# EAGLE library part MCP7940N (library WCSMain)
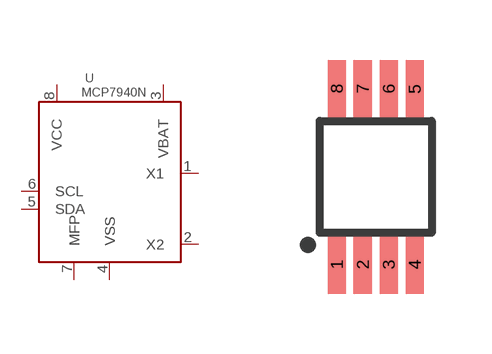
[diagram p1: symbol with the pads of MSOP8; footprint MSOP8]

Designator prefix -

## MCP7940N  [MSOP8]
1  X1  pas
2  X2  pas
3  VBAT  sup
4  VSS  pas
5  SDA
6  SCL
7  MFP
8  VCC  sup

## Footprint MSOP8 (pad centres in mm)
Micro Small Outline Package Grid .65mm
smd 0.45 x 1.45: 1 -0.975,-2.2; 2 -0.325,-2.2; 3 0.325,-2.2; 4 0.975,-2.2; 5 0.975,2.2; 6 0.325,2.2; 7 -0.325,2.2; 8 -0.975,2.2